# EAGLE library part FCI-10029449-111RLF (library SchlegelAr_Master)
FCI-10029449-111RLF - HDMI, Displayport & DVI-Steckverbinder HDMI TYPE A RECEPT last modified: Armin Schlegel, 30.10.2014 http://de.mouser.com/ProductDetail/FCI/10029449-111RLF/?qs=%2Fha2pyFadug8U4IOZZI2jnut2zm2rFMAp8K8PcXPAIyrEGZ2XRAPnyrp%252b5pF2ZP7 http://portal.fciconnect.com/Comergent/en/US/adirect/fci?cmd=catProductDetail&showAddButton=true&productID=10029449111RLF
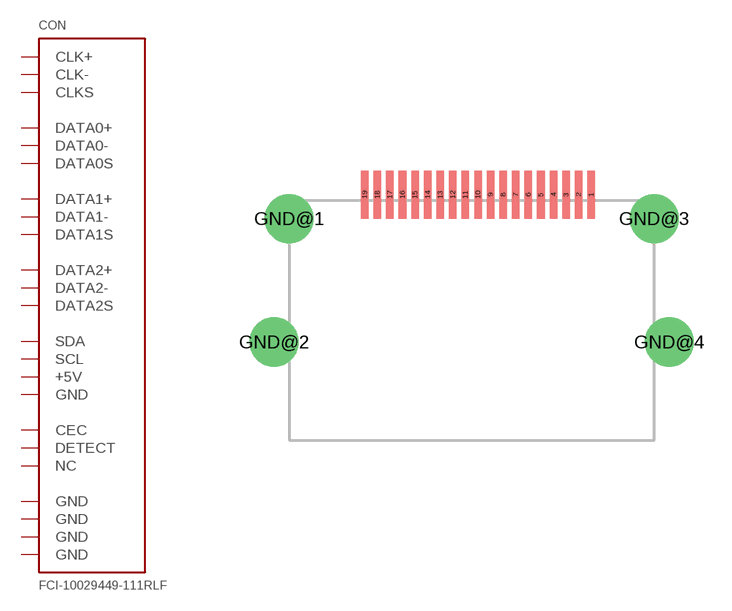
[diagram p8: symbol with the pads of FCI-10029449-111RLF; footprint FCI-10029449-111RLF]

Designator prefix CON

## FCI-10029449-111RLF  [FCI-10029449-111RLF]
1  DATA2+
2  DATA2S
3  DATA2-
4  DATA1+
5  DATA1S
6  DATA1-
7  DATA0+
8  DATA0S
9  DATA0-
10  CLK+
11  CLKS
12  CLK-
13  CEC
14  NC
15  SCL
16  SDA
17  GND
18  +5V
19  DETECT
GND@1  GND  pwr
GND@2  GND  pwr
GND@3  GND  pwr
GND@4  GND  pwr

## Footprint FCI-10029449-111RLF (pad centres in mm)
smd 0.3 x 1.9: 1 4.75,1; 2 4.25,1; 3 3.75,1; 4 3.25,1; 5 2.75,1; 6 2.25,1; 7 1.75,1; 8 1.25,1; 9 0.75,1; 10 0.25,1; 11 -0.25,1; 12 -0.75,1; 13 -1.25,1; 14 -1.75,1; 15 -2.25,1; 16 -2.75,1; 17 -3.25,1; 18 -3.75,1; 19 -4.25,1
drill 1.3: GND@1 -7.25,0.05; GND@2 -7.85,-4.85; GND@3 7.25,0.05; GND@4 7.85,-4.85